# Altium schematic symbol library SCH - POWER - LINEAR VREG - AD LT3042.SchLib: 1 symbol
Pins are listed as number, name and electrical type; pins without a type are passive.

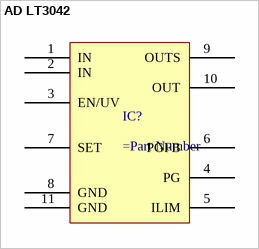
[diagram p0: symbol AD LT3042]

## AD LT3042
designator IC?
pins: 1 IN, 2 IN, 3 EN/UV, 4 PG, 5 ILIM, 6 PGFB, 7 SET, 8 GND, 9 OUTS, 10 OUT, 11 GND